# Altium schematic symbol library SCH - CONNECTOR - USB4105-GF-A.SCHLIB: 1 symbol
Pins are listed as number, name and electrical type; pins without a type are passive.

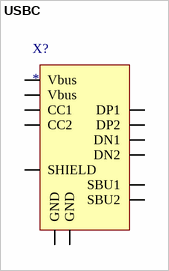
[diagram p0: symbol USBC]

## USBC
designator X?
pins: 1 GND, 2 Vbus, 3 SBU2, 4 CC1, 5 DN2, 6 DP1, 7 DN1, 8 DP2, 9 SBU1, 10 CC2, 11 Vbus, 12 GND, 13 SHIELD